# Altium footprint library 4 pin header replace.PCBLIB: 1 footprints
Each footprint in its own frame and in the unit in brackets; x right, y up, seen from the top. Pads: shape width x height; smd on the part's side, far side on the other; paste and mask are expansions set on the pad; w line width, h text height; cw(c..) or ccw(c..) is an arc to the next point about the centre after c.
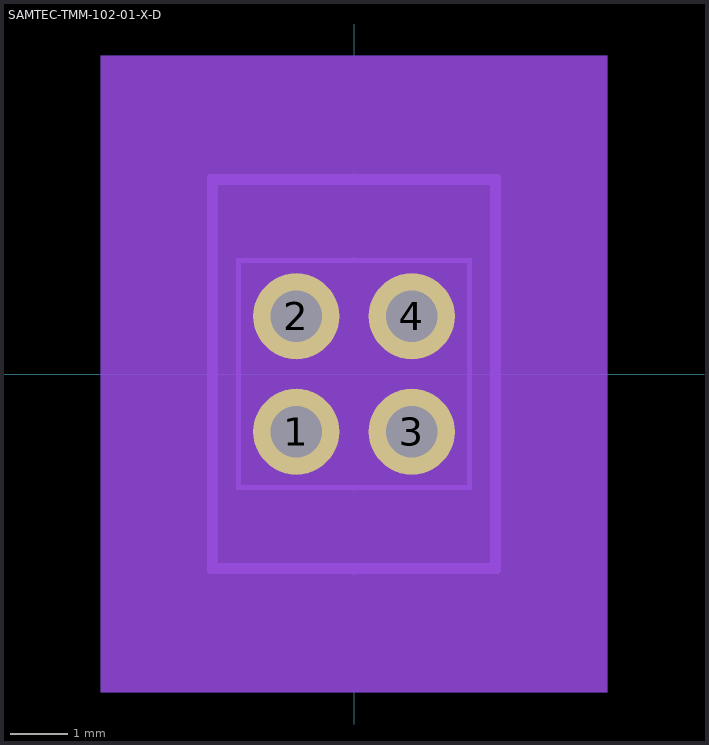
[diagram p0: the footprint, top view; thin cyan lines are the x and y axes]

## SAMTEC-TMM-102-01-X-D [mm]
pads (4):
  round 1.49 hole 0.89: 1(-1,-1) 2(-1,1) 3(1,-1) 4(1,1)
Top keep-out:
  region: -2.685,-3.605 -2.685,3.605 2.685,3.605 2.685,-3.605 -2.685,-3.605
Bottom keep-out:
  region: -4.39,-5.51 -4.39,5.51 4.39,5.51 4.39,-5.51 -4.39,-5.51
Top Paste:
  drawing of 4 lines, arcs and shapes, not listed
Top Solder:
  circle w0: c-1,-1 r0.796
  circle w0: c-1,1 r0.796
  circle w0: c1,-1 r0.796
  circle w0: c1,1 r0.796
Bottom Solder:
  circle w0: c-1,-1 r0.796
  circle w0: c-1,1 r0.796
  circle w0: c1,-1 r0.796
  circle w0: c1,1 r0.796
tDocu:
  lines w0.1: -2,-1.968 0,-1.968 2,-1.968 2,1.968 0,1.968 -2,1.968 -2,-1.968 ; -1.254,-1.254 -0.746,-1.254 -0.746,-0.746 -1.254,-0.746 -1.254,-1.254 ; -1.254,0.746 -0.746,0.746 -0.746,1.254 -1.254,1.254 -1.254,0.746 ; 0.746,-1.254 1.254,-1.254 1.254,-0.746 0.746,-0.746 0.746,-1.254 ; 0.746,0.746 0.746,1.254 1.254,1.254 1.254,0.746 0.746,0.746
  text "1" at -3.82,-1.635 h1.97
  text "2" at -3.82,0.365 h1.97
  text "3" at 2.791,-1.635 h1.97
  text "4" at 2.791,0.365 h1.97
tPlace:
  lines w0.2: -2.45,-3.37 -2.45,3.37 2.45,3.37 2.45,-3.37 -2.45,-3.37
  text "1" at -3.82,-1.635 h1.97
  text "2" at -3.82,0.365 h1.97
  text "3" at 2.791,-1.635 h1.97
  text "4" at 2.791,0.365 h1.97